# Altium footprint library Предохранители.PcbLib: 15 footprints
Each footprint in its own frame and in the unit in brackets; x right, y up, seen from the top. Pads: shape width x height; smd on the part's side, far side on the other; paste and mask are expansions set on the pad; w line width, h text height; cw(c..) or ccw(c..) is an arc to the next point about the centre after c.
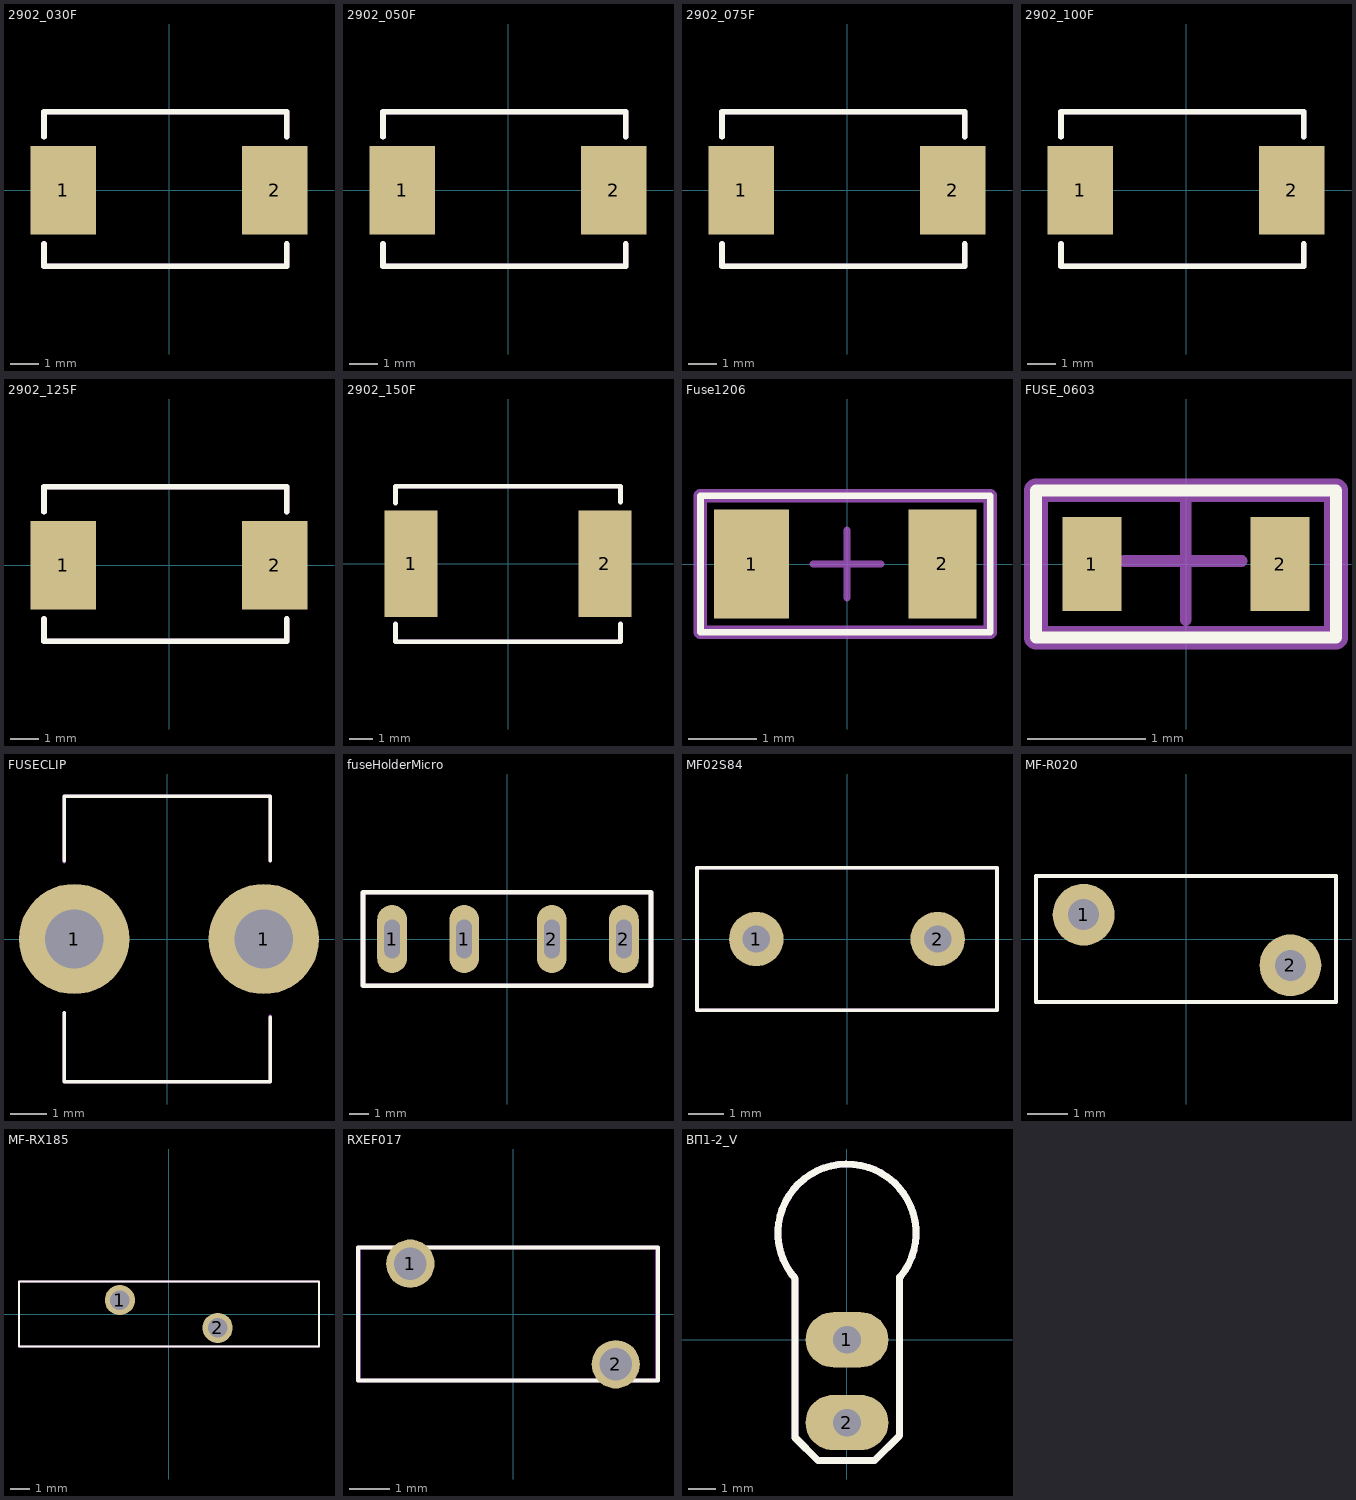
[diagram p0: the footprints below, top view; thin cyan lines are the x and y axes]

## 2902_030F [mm]
pads (2):
  rect 2.3x3.1 smd: 1(-3.7,0) 2(3.7,0)
Top Overlay:
  lines w0.2: -4.375,-1.875 -4.375,-2.65 4.125,-2.65 4.125,-1.875 ; -4.375,1.875 -4.375,2.75 4.125,2.75 4.125,1.875
TopAssy:
  lines w0.2: -4.375,-1.875 -4.375,-2.65 4.125,-2.65 4.125,-1.875 ; -4.375,1.875 -4.375,2.75 4.125,2.75 4.125,1.875
  text ".Designator" at -1.5,-0.525 h1.52
3D body "030F.stp": height 3.14, standoff -0.05, extent -3.677,-2.72 3.678,2.72

## 2902_050F [mm]
pads (2):
  rect 2.3x3.1 smd: 1(-3.7,0) 2(3.7,0)
Top Overlay:
  lines w0.2: -4.375,-1.875 -4.375,-2.65 4.125,-2.65 4.125,-1.875 ; -4.375,1.875 -4.375,2.75 4.125,2.75 4.125,1.875
TopAssy:
  lines w0.2: -4.375,-1.875 -4.375,-2.65 4.125,-2.65 4.125,-1.875 ; -4.375,1.875 -4.375,2.75 4.125,2.75 4.125,1.875
  text ".Designator" at -1.5,-0.525 h1.52
3D body "050F.stp": height 3.14, standoff -0.05, extent -3.677,-2.72 3.678,2.72

## 2902_075F [mm]
pads (2):
  rect 2.3x3.1 smd: 1(-3.7,0) 2(3.7,0)
Top Overlay:
  lines w0.2: -4.375,-1.875 -4.375,-2.65 4.125,-2.65 4.125,-1.875 ; -4.375,1.875 -4.375,2.75 4.125,2.75 4.125,1.875
TopAssy:
  lines w0.2: -4.375,-1.875 -4.375,-2.65 4.125,-2.65 4.125,-1.875 ; -4.375,1.875 -4.375,2.75 4.125,2.75 4.125,1.875
  text ".Designator" at -1.5,-0.525 h1.52
3D body "075F.stp": height 3.14, standoff -0.05, extent -3.677,-2.72 3.678,2.72

## 2902_100F [mm]
pads (2):
  rect 2.3x3.1 smd: 1(-3.7,0) 2(3.7,0)
Top Overlay:
  lines w0.2: -4.375,-1.875 -4.375,-2.65 4.125,-2.65 4.125,-1.875 ; -4.375,1.875 -4.375,2.75 4.125,2.75 4.125,1.875
TopAssy:
  lines w0.2: -4.375,-1.875 -4.375,-2.65 4.125,-2.65 4.125,-1.875 ; -4.375,1.875 -4.375,2.75 4.125,2.75 4.125,1.875
  text ".Designator" at -1.5,-0.525 h1.52
3D body "100F.stp": height 3.14, standoff -0.05, extent -3.677,-2.72 3.678,2.72

## 2902_125F [mm]
pads (2):
  rect 2.3x3.1 smd: 1(-3.7,0) 2(3.7,0)
Top Overlay:
  lines w0.2: -4.375,-1.875 -4.375,-2.65 4.125,-2.65 4.125,-1.875 ; -4.375,1.875 -4.375,2.75 4.125,2.75 4.125,1.875
TopAssy:
  lines w0.2: -4.375,-1.875 -4.375,-2.65 4.125,-2.65 4.125,-1.875 ; -4.375,1.875 -4.375,2.75 4.125,2.75 4.125,1.875
  text ".Designator" at -1.5,-0.525 h1.52
3D body "125F.stp": height 3.14, standoff -0.05, extent -3.677,-2.72 3.678,2.72

## 2902_150F [mm]
pads (2):
  rect 2.3x4.6 smd: 1(-4.2,0) 2(4.2,0)
Top Overlay:
  lines w0.2: -4.875,-2.6 -4.875,-3.375 4.875,-3.375 4.875,-2.6 ; -4.875,2.625 -4.875,3.35 4.875,3.35 4.875,2.675
TopAssy:
  lines w0.2: -4.875,-2.625 -4.875,-3.375 4.875,-3.375 4.875,-2.625 ; -4.875,3.35 4.125,3.35 4.875,3.35 4.875,2.675
  text ".Designator" at -1.5,-0.525 h1.52
3D body "SMD200F.step": height 3, standoff 0, extent -4.7,-3.355 4.7,3.355

## Fuse1206 [mm]
pads (2):
  rect 1.1x1.6 smd: 1(-1.4,0)
  rect 1x1.6 smd: 2(1.4,0)
Top Overlay:
  lines w0.1: -2.15,-1 -2.15,1 2.1,1 2.1,-1 -2.15,-1
TopAssy:
  lines w0.2: -2.15,-1 -2.15,1 2.1,1 2.1,-1 -2.15,-1
  text ".Designator" at -1.775,-0.525 h1.52
Mechanical 15:
  lines w0.1: -0.5,0 0.5,0 ; 0,-0.5 0,0.5
3D body "0466_375NRHF.step": height 0.54, standoff -0.04, extent -1.587,-0.762 1.588,0.762

## FUSE_0603 [mm]
pads (2):
  rect 0.5x0.8 smd: 1(-0.8,0) 2(0.8,0)
Top Overlay:
  lines w0.1: -1.275,-0.625 1.275,-0.625 1.275,0.625 -1.275,0.625 -1.275,-0.625
TopAssy:
  lines w0.2: -1.275,-0.625 1.275,-0.625 1.275,0.625 -1.275,0.625 -1.275,-0.625
  text ".Designator" at -0.5,-0.5 h1.52
Mechanical 15:
  lines w0.1: -0.527,0.025 0.473,0.025 ; -0.002,-0.475 -0.002,0.525
3D body "SMD0603.step": height 0.18, standoff -0.18, extent -0.8,-0.406 0.8,0.407

## FUSECLIP [mm]
pads (2):
  round 3 hole 1.6: 1(-2.525,0) 1(2.625,0)
Top Overlay:
  lines w0.1: -2.8,-2 -2.8,-3.875 2.8,-3.875 2.8,-2.125 ; -2.8,2.125 -2.8,3.875 2.8,3.875 2.8,2.125
TopAssy:
  lines w0.1: -2.8,-2 -2.8,-3.875 2.8,-3.875 2.8,-2.1 ; -2.8,2.1 -2.8,3.875 2.8,3.875 2.8,2.125
  text ".Designator" at -2.05,-1.675 h1.52
3D body "FUSECLIP.step": height 11.42, standoff -3, extent -2.802,-3.866 2.802,3.866

## fuseHolderMicro [mm]
pads (4):
  oval 1.524x3.5 hole 0.8 slot 2 at 90 deg: 1(-5.9,0) 1(-2.2,0) 2(2.3,0) 2(6,0)
Top Overlay:
  lines w0.254: -7.4,-2.4 -7.4,2.4 7.4,2.4 7.4,-2.4 -7.4,-2.4
TopAssy:
  lines w0.254: -7.4,-2.4 -7.4,2.4 7.4,2.4 7.4,-2.4 -7.4,-2.4
  text ".Designator" at 0,-0.1 h1.52
3D body "fuseHolderMicro.stp": height 8.6, standoff -2.6, extent -7.4,-2.4 7.4,2.4

## MF02S84 [mil]
pads (2):
  round 60 hole 30: 1(-100,0) 2(100,0)
Top Overlay:
  lines w3.94: -165.35,-78.74 165.35,-78.74 165.35,78.74 -165.35,78.74 -165.35,-78.74
TopAssy:
  lines w3.94: -165.35,-78.74 -165.35,78.74 165.35,78.74 165.35,-78.74 -165.35,-78.74
  text ".Designator" at -49.21,-7.87 h60
3D body "MF02S84.stp": height 303.15, standoff -98.43, extent -165.35,-78.73 165.35,78.75

## MF-R020 [mil]
pads (2):
  round 60 hole 30: 1(-99.41,23.62) 2(101.38,-25.59)
Top Overlay:
  lines w3.94: -145.67,-61.02 145.67,-61.02 145.67,61.02 -145.67,61.02 -145.67,-61.02
TopAssy:
  lines w3.94: -145.67,-61.02 -145.67,61.02 145.67,61.02 145.67,-61.02 -145.67,-61.02
  text ".Designator" at -76.77,-16.73 h60
3D body "MF-R020.STEP": height 500, standoff -299.21, extent -145.66,-61.1 145.68,61.11

## MF-RX185 [mm]
pads (2):
  round 1.524 hole 1: 1(-2.475,0.7) 2(2.475,-0.7)
Top Overlay:
  lines w0.1: -7.575,-1.65 7.6,-1.65 7.6,1.65 -7.575,1.65 -7.575,-1.65
TopAssy:
  lines w0.1: -7.575,-1.65 -7.575,1.65 7.6,1.65 7.6,-1.65 -7.575,-1.65
  text ".Designator" at -1.95,-0.5 h1.52
3D body "mf-rx185_72.stp": height 22.59, standoff -6.19, extent -7.59,-1.55 7.59,1.55

## RXEF017 [mm]
pads (2):
  round 1.2 hole 0.8: 1(-2.55,1.25) 2(2.55,-1.25)
Top Overlay:
  lines w0.1: -3.85,-1.65 -3.85,1.65 3.6,1.65 3.6,-1.65 -3.85,-1.65
TopAssy:
  lines w0.1: -3.825,-1.65 3.575,-1.65 3.575,1.65 -3.825,1.65 -3.825,-1.65
  text ".Designator" at -1.95,-0.5 h1.52
3D body "FUSE_RXEF017_LTF.step": height 14.7, standoff -1.99, extent -3.768,-1.524 3.598,1.524

## ВП1-2_V [mm]
pads (2):
  oval 3x2 hole 1 square: 1(0,0) 2(0,-3)
Top Overlay:
  lines w0.254: -1.881,2.22 cw(c0.001,3.866) 1.931,2.277 ; -1.875,2.225 -1.875,-3.55 -1.05,-4.375 1,-4.375 1.9,-3.475 1.9,2.277
TopAssy:
  lines w0.254: -1.881,2.22 cw(c0.001,3.866) 1.931,2.277 ; -1.875,2.225 -1.875,-3.55 -1.05,-4.375 1,-4.375 1.9,-3.475 1.9,2.277
  text ".Designator" at -1.225,3.15 h1.52
3D body "User Library-FUSIVEL.step": height 20, standoff 0, extent -2.373,1.5 2.627,6.5
3D body: height 3, standoff 0, extent -1,-0.25 1,0.25
3D body: height 3, standoff 2.5, extent -1,-0.25 1,1.775
3D body: height 18, standoff 0, extent -1,-3.25 1,-2.75
3D body: height 18.5, standoff 18, extent -1,-3.25 1,1.8